# Altium integrated library Resistors_SMD_IPC-SM-782.IntLib: 8 symbols
Pins are listed as number, name and electrical type; pins without a type are passive.

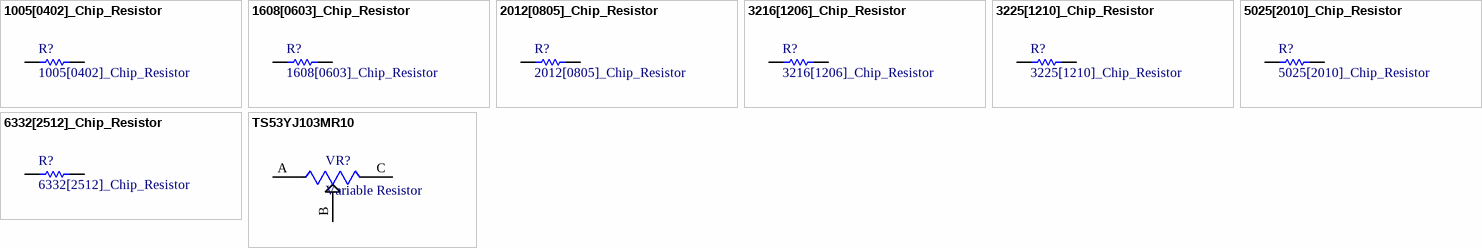
[diagram p0: symbols 1005[0402]_Chip_Resistor to TS53YJ103MR10]

## 1005[0402]_Chip_Resistor
designator R?
Thick Film Chip Resistor, 0402 Size; Note: If flow soldering, adjust pad width of PCB Footprint to 0.7 - 0.8 times the width of the resistor.; LatestReviewer: Fenrrich; Published: 28-08-2017; LatestRevisionDate: 28-08-2017; LatestRevisionNote: Silkscreen size reduced.; PackageReference: 0402; Publisher: CIATEQ; Code_IPC: 1005[0402]; ComponentLink1Description: Manufacturer Link; ComponentLink2Description: Datasheet; ComponentDescription: Thick Film Chip Resistor, 0402 Size
footprint 1005[0402] (Chip Resistor; Body 1.1 x 0.5 mm (LxW typ))
footprint 0402
pins: 1, 2

## 1608[0603]_Chip_Resistor
designator R?
Thick Film Chip Resistor, 0603 Size; Note: If flow soldering, adjust pad width of PCB Footprint to 0.7 - 0.8 times the width of the resistor.; LatestReviewer: Fenrrich; Published: 28-08-2017; LatestRevisionDate: 28-08-2017; LatestRevisionNote: Silkscreen size reduced.; PackageReference: 0603; Publisher: CIATEQ; Code_IPC: 1608 [0603]; ComponentLink1Description: Manufacturer Link; ComponentLink2Description: Datasheet; ComponentDescription: Thick Film Chip Resistor, 0603 Size
footprint 1608[0603] (Chip Resistor; Body 1.6 x 0.8 mm (LxW typ))
pins: 1, 2

## 2012[0805]_Chip_Resistor
designator R?
Thick Film Chip Resistor, 0805 Size; Note: If flow soldering, adjust pad width of PCB Footprint to 0.7 - 0.8 times the width of the resistor.; LatestReviewer: Fenrrich; Published: 28-08-2017; LatestRevisionDate: 28-08-2017; LatestRevisionNote: Silkscreen size reduced.; PackageReference: 0805; Publisher: CIATEQ; Code_IPC: 2012[0805]; ComponentLink1Description: Manufacturer Link; ComponentLink2Description: Datasheet; ComponentDescription: Thick Film Chip Resistor, 0805 Size
footprint 2012[0805] (Chip Resistor; Body 2.0 x 1.3 mm (LxW typ))
pins: 1, 2

## 3216[1206]_Chip_Resistor
designator R?
Thick Film Chip Resistor, 1206 Size; Note: If flow soldering, adjust pad width of PCB Footprint to 0.7 - 0.8 times the width of the resistor.; LatestReviewer: Fenrrich; Published: 28-08-2017; LatestRevisionDate: 28-08-2017; LatestRevisionNote: Silkscreen size reduced.; PackageReference: 1206; Publisher: CIATEQ; Code_IPC: 3216[1206]; ComponentLink1Description: Manufacturer Link; ComponentLink2Description: Datasheet; ComponentDescription: Thick Film Chip Resistor, 1206 Size
footprint 3216[1206] (Chip Resistor; Body 3.2 x 1.6 mm (LxW typ))
pins: 1, 2

## 3225[1210]_Chip_Resistor
designator R?
Thick Film Chip Resistor, 1210 Size; Note: If flow soldering, adjust pad width of PCB Footprint to 0.7 - 0.8 times the width of the resistor.; LatestReviewer: Fenrrich; Published: 28-08-2017; LatestRevisionDate: 28-08-2017; LatestRevisionNote: Silkscreen size reduced.; PackageReference: 1210; Publisher: CIATEQ; Code_IPC: 3225[1210]; ComponentLink1Description: Manufacturer Link; ComponentLink2Description: Datasheet; ComponentDescription: Thick Film Chip Resistor, 1210 Size
footprint 3225[1210] (Chip Resistor; Body 3.2 x 2.5 mm (LxW typ))
pins: 1, 2

## 5025[2010]_Chip_Resistor
designator R?
Thick Film Chip Resistor, 2010 Size; Note: If flow soldering, adjust pad width of PCB Footprint to 0.7 - 0.8 times the width of the resistor.; LatestReviewer: Fenrrich; Published: 28-08-2017; LatestRevisionDate: 28-08-2017; LatestRevisionNote: Silkscreen size reduced.; PackageReference: 2010; Publisher: CIATEQ; Code_IPC: 5025[2010]; ComponentLink1Description: Manufacturer Link; ComponentLink2Description: Datasheet; ComponentDescription: Thick Film Chip Resistor, 2010 Size
footprint 5025[2010] (Chip Resistor; Body 5.0 x 2.5 mm (LxW typ))
pins: 1, 2

## 6332[2512]_Chip_Resistor
designator R?
Thick Film Chip Resistor, 2512 Size; Note: If flow soldering, adjust pad width of PCB Footprint to 0.7 - 0.8 times the width of the resistor.; LatestReviewer: Fenrrich; Published: 28-08-2017; LatestRevisionDate: 28-08-2017; LatestRevisionNote: Silkscreen size reduced.; PackageReference: 2512; Publisher: CIATEQ; Code_IPC: 6332[2512]; ComponentLink1Description: Manufacturer Link; ComponentLink2Description: Datasheet; ComponentDescription: Thick Film Chip Resistor, 2512 Size
footprint 6332[2512] (Chip Resistor; Body 6.3 x 3.2 mm (LxW typ))
pins: 1, 2

## TS53YJ103MR10
designator VR?, comment Variable Resistor
footprint TS53YJ103MR10
pins: A, B, C